# Altium schematic symbol library 7466003 Screw Conn.SchLib: 1 symbol
Pins are listed as number, name and electrical type; pins without a type are passive.

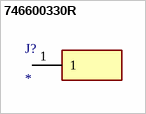
[diagram p0: symbol 746600330R]

## 746600330R
designator J?
Connector; Manufacturer_Name: Wurth Elektronik; Manufacturer_Part_Number: 746600330R; Description: Wurth Elektronik WP-SMBU PCB Screw Terminal; Datasheet Link: https://www.mouser.com/datasheet/2/445/746600330R-1095622.pdf; Height: 4mm; Mouser Part Number: 710-746600330R; Mouser Price/Stock: https://www.mouser.co.uk/ProductDetail/Wurth-Elektronik/746600330R?qs=lBTPRtX1sU8mwfQdkSz5%2FQ%3D%3D
footprint 746600330R
pins: 1